# Altium schematic symbol library U_74AHC1G08.Schlib: 1 symbol
Pins are listed as number, name and electrical type; pins without a type are passive.

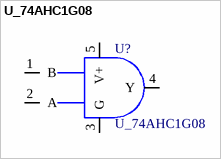
[diagram p0: symbol U_74AHC1G08]

## U_74AHC1G08
designator U?
pins: 1 B, 2 A, 3 G, 4 Y, 5 V+